# Altium schematic symbol library Schlib1.SchLib: 1 symbol
Pins are listed as number, name and electrical type; pins without a type are passive.

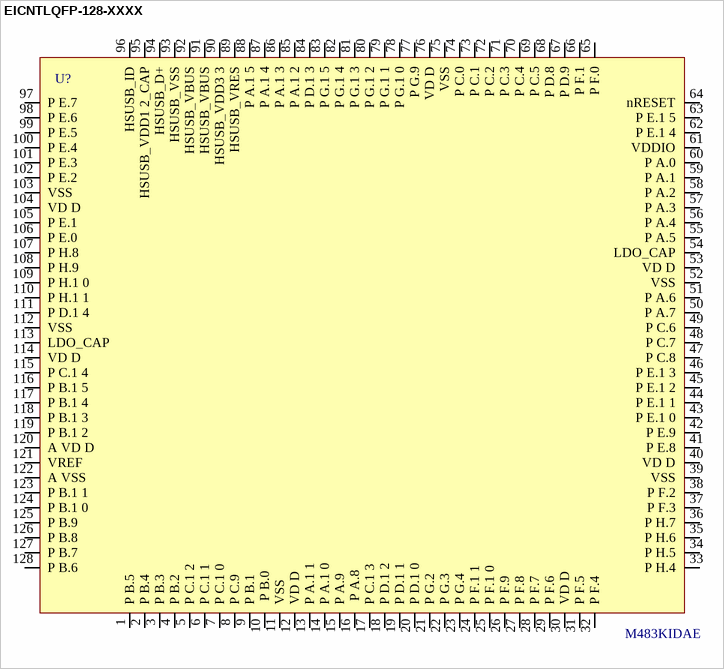
[diagram p0: symbol EICNTLQFP-128-XXXX]

## EICNTLQFP-128-XXXX
designator U?, comment value M483KIDAE  (hidden comment: MICROCONTROLLER ARM CORTEX)
Manufacturer: Nuvoton Technology Corporation of America; Internal Part Number: EICNTLQFP-128-XXXX; Vendor Name: custom; 3rd Auxiliary Field: RoHS Compliant; 1st Auxiliary Field: 1.8V ~ 3.6V; Component Height (mm): 1.60mm; Temp Co: -40°C ~ 105°C (TA); 2nd Auxiliary Field: 1.3 mA; Part Type: MICROCONTROLLER ARM CORTEX; Vendor Part Number: *; 4th Auxillary field: *; Manufacturer Part Number: M483KIDAE
pins: 1 P B.5, 2 P B.4, 3 P B.3, 4 P B.2, 5 P C.1 2, 6 P C.1 1, 7 P C.1 0, 8 P C.9, 9 P B.1 , 10  P B.0, 11 VSS, 12 VD D, 13 P A.1 1, 14 P A.1 0, 15 P A.9, 16  P A.8, 17 P C.1 3, 18 P D.1 2, 19 P D.1 1, 20 P D.1 0, 21 P G.2, 22 P G.3, 23 P G.4, 24 P F.1 1, 25 P F.1 0, 26 P F.9, 27 P F.8, 28 P F.7, 29 P F.6, 30 VD D, 31 P F.5, 32 P F.4, 33 P H.4, 34 P H.5, 35 P H.6, 36 P H.7, 37 P F.3, 38 P F.2, 39 VSS, 40 VD D, 41 P E.8, 42 P E.9, 43 P E.1 0, 44 P E.1 1, 45 P E.1 2, 46 P E.1 3, 47 P C.8, 48 P C.7, 49 P C.6, 50 P A.7, 51 P A.6, 52 VSS, 53 VD D, 54 LDO_CAP, 55 P A.5, 56 P A.4, 57 P A.3, 58 P A.2, 59 P A.1, 60 P A.0, 61 VDDIO, 62 P E.1 4, 63 P E.1 5, 64 nRESET, 65 P F.0, 66 P F.1, 67 P D.9, 68 P D.8, 69 P C.5, 70 P C.4, 71 P C.3, 72 P C.2, 73 P C.1, 74 P C.0, 75 VSS, 76 VD D, 77 P G.9, 78 P G.1 0, 79 P G.1 1, 80 P G.1 2, 81 P G.1 3, 82 P G.1 4, 83 P G.1 5, 84 P D.1 3, 85 P A.1 2, 86 P A.1 3, 87 P A.1 4, 88 P A.1 5, 89 HSUSB_VRES, 90 HSUSB_VDD3 3, 91 HSUSB_VBUS, 92 HSUSB_VBUS, 93 HSUSB_VSS, 94 HSUSB_D+, 95 HSUSB_VDD1 2_CAP, 96 HSUSB_ID, 97 P E.7, 98 P E.6, 99 P E.5, 100 P E.4, 101 P E.3, 102 P E.2, 103 VSS, 104 VD D, 105 P E.1, 106 P E.0, 107 P H.8, 108 P H.9, 109 P H.1 0, 110 P H.1 1, 111 P D.1 4, 112 VSS, 113 LDO_CAP, 114 VD D, 115 P C.1 4, 116 P B.1 5, 117 P B.1 4, 118 P B.1 3, 119 P B.1 2, 120 A VD D, 121 VREF, 122 A VSS, 123 P B.1 1, 124 P B.1 0, 125 P B.9, 126 P B.8, 127 P B.7, 128 P B.6